# Altium schematic symbol library STD13NM60N.Schlib: 1 symbol
Pins are listed as number, name and electrical type; pins without a type are passive.

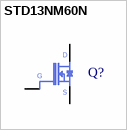
[diagram p0: symbol STD13NM60N]

## STD13NM60N
designator Q?  (value not drawn)
pins: 1 G, 3 S, 4 D